# EAGLE library part RESISTOR-ARRAY_EXB-V8V103JV-GOOD (library OSO-BOOK-C3-00)
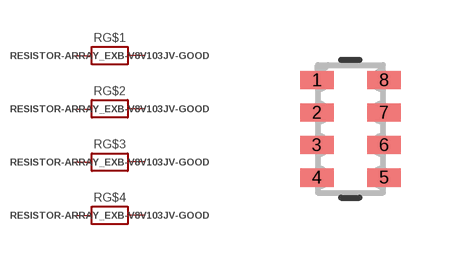
[diagram p7: symbol with the pads of RESISTOR-ARRAY_EXBV8V; footprint RESISTOR-ARRAY_EXBV8V]

Designator prefix R; gates G$1=RESISTOR-ARRAY_MICROBUILDER_RESISTOR G$2=RESISTOR-ARRAY_MICROBUILDER_RESISTOR G$3=RESISTOR-ARRAY_MICROBUILDER_RESISTOR G$4=RESISTOR-ARRAY_MICROBUILDER_RESISTOR

## RESISTOR-ARRAY_EXB-V8V103JV-GOOD (MANUFACTURER_PART_NUMBER: EXBV8V103JV; VENDOR: Panasonic)  [RESISTOR-ARRAY_EXBV8V]
1  G$1:1  pas
2  G$2:1  pas
3  G$3:1  pas
4  G$4:1  pas
5  G$4:2  pas
6  G$3:2  pas
7  G$2:2  pas
8  G$1:2  pas

## Footprint RESISTOR-ARRAY_EXBV8V (pad centres in mm)
smd 0.838 x 0.457: 1 -0.838,1.219; 2 -0.838,0.406; 3 -0.838,-0.406; 4 -0.838,-1.219; 5 0.838,-1.219; 6 0.838,-0.406; 7 0.838,0.406; 8 0.838,1.219